# EAGLE library part RK097 (library SparkFun-Electromechanical)
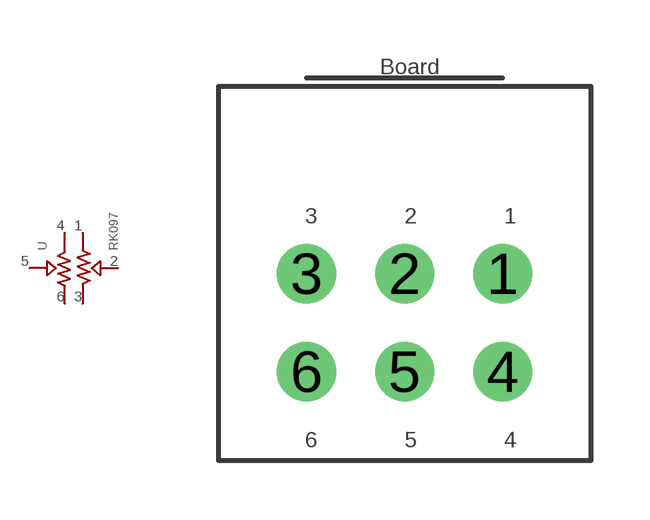
[diagram p0: symbol with the pads of RK097; footprint RK097]

Designator prefix -

## RK097  [RK097]
1  1
2  2
3  3
4  4
5  5
6  6

## Footprint RK097 (pad centres in mm)
drill 1: 1 2.5,0; 2 0,0; 3 -2.5,0; 4 2.5,-2.5; 5 0,-2.5; 6 -2.5,-2.5